# Altium schematic symbol library L_Shaped_Button.SchLib: 1 symbol
Pins are listed as number, name and electrical type; pins without a type are passive.

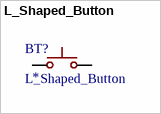
[diagram p0: symbol L_Shaped_Button]

## L_Shaped_Button
designator BT?
Plugin Tactile Switches ROHS; LCSC: *
footprint L_Shaped_Button
pins: 1, 2